# Altium schematic symbol library MB1137_1.SCHLIB: 102 symbols
Pins are listed as number, name and electrical type; pins without a type are passive.

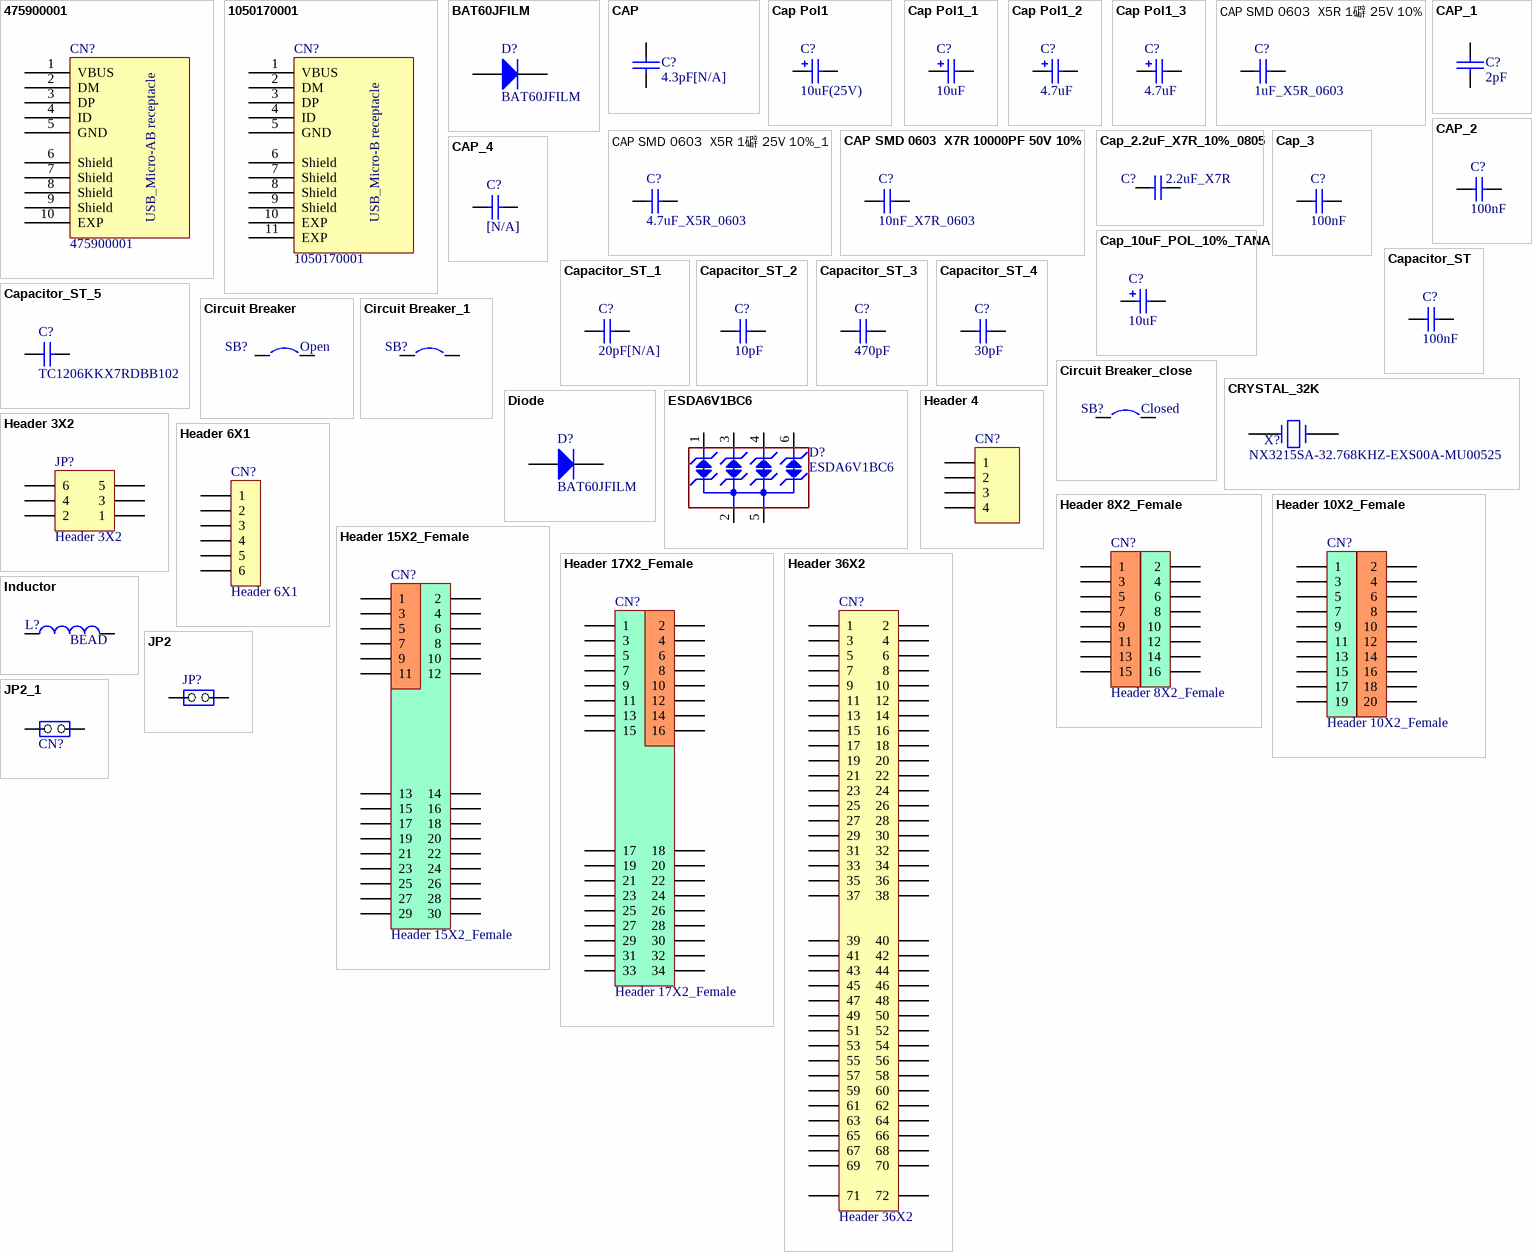
[diagram p0: symbols 475900001 to JP2_1]

## 475900001
designator CN?
footprint Model Name (Footprint not found)
footprint MOLEX_47590001 (Footprint not found)
pins: 1 VBUS, 2 DM, 3 DP, 4 ID, 5 GND, 6 Shield, 7 Shield, 8 Shield, 9 Shield, 10 EXP
text: USB_Micro-AB receptacle

## 1050170001
designator CN?
Silkscreen: USB
footprint Model Name (Footprint not found)
footprint MOLEX_1050170001 (Footprint not found)
footprint MICRO_USB_B_105017
footprint Molex_1050170001 (Footprint not found)
pins: 1 VBUS, 2 DM, 3 DP, 4 ID, 5 GND, 6 Shield, 7 Shield, 8 Shield, 9 Shield, 10 EXP, 11 EXP
text: USB_Micro-B receptacle

## BAT60JFILM
designator D?
Manuf_1: STM; Provided: ST; ECCN_US/EU: EAR99/NEC; Revision: July-2002: Re-released for DXP Platform.; Order: BAT60JFILM; Manuf_Part_1: BAT60JFILM; Distrib: ST
footprint DSO-C2/X3.3 (DO-214-AB/SMC; 2 C-Bend Leads; Body 7.9 x 5.9 mm, inc. leads (LxW))
simulation model DIODE (Diode)
signal-integrity model Diode
footprint SOD-323 (Footprint not found)
pins: 1 A, 2 K

## CAP
designator C?, comment 4.3pF[N/A]
Capacitor
footprint 0603 (Footprint not found)
footprint 0603C
pins: 1, 2
2 alternate drawings of the same symbol

## Cap Pol1
designator C?, comment 10uF(25V)
Polarized Capacitor (Radial); Published: 8-Jun-2000; Revision: July-2002: Re-released for DXP Platform.; Publisher: Altium Limited; Value: 10uF
simulation model CAP (Capacitor)
signal-integrity model C200M
footprint 3528 (Footprint not found)
footprint TAN-B
footprint TAN-A
pins: 1, 2

## Cap Pol1_1
designator C?, comment 10uF
Polarized Capacitor (Radial); Published: 8-Jun-2000; Revision: July-2002: Re-released for DXP Platform.; Publisher: Altium Limited; Value: 10uF
simulation model CAP (Capacitor)
signal-integrity model C200M
footprint 3528 (Footprint not found)
footprint TAN-B
footprint TAN-A
pins: 1, 2

## Cap Pol1_2
designator C?, comment 4.7uF
Polarized Capacitor (Radial); Value: 100pF; Ordered by: Subcon; Published: 8-Jun-2000; Revision: July-2002: Re-released for DXP Platform.; Publisher: Altium Limited
simulation model CAP (Capacitor)
signal-integrity model Cap Pol
footprint Model Name (Footprint not found)
footprint TAN-A
pins: 1, 2

## Cap Pol1_3
designator C?, comment 4.7uF
Polarized Capacitor (Radial); Value: 47uF; Published: 8-Jun-2000; Revision: July-2002: Re-released for DXP Platform.; Publisher: Altium Limited
simulation model CAP (Capacitor)
signal-integrity model C310M
footprint C310M (Footprint not found)
footprint C160M
footprint TAN-A
pins: 1, 2

## CAP SMD 0603  X5R 1礔 25V 10%
designator C?, comment 1uF_X5R_0603
0603  X5R 1礔; Rated voltage: 25V; Tolerance: 10%; Manufacturer: *; Manufacturer P/N: *; Order code Farnell: 1288202RL; Value: 1礔; Power: *; Technology: X5R; Temperature  Factor: *; Temperature Max: +125癈; Temperature Min: -55癈; STS Code: *
footprint 0603C (Footprint not found)
3D model 0603_0_0000_R (PCB3D Model)
simulation model Capacitor
signal-integrity model Capacitor
pins: 1, 2

## CAP SMD 0603  X5R 1礔 25V 10%_1
designator C?, comment 4.7uF_X5R_0603
0603  X5R 4.7uF; Value: 1礔; Rated voltage: 25V; Tolerance: 10%; Manufacturer: *; Manufacturer P/N: *; Order code Farnell: 1288202RL; Power: *; Technology: X5R; Temperature  Factor: *; Temperature Max: +125癈; Temperature Min: -55癈; STS Code: *
footprint 0603C (Footprint not found)
3D model 0603_0_0000_R (PCB3D Model)
simulation model Capacitor
signal-integrity model Capacitor
pins: 1, 2

## CAP SMD 0603  X7R 10000PF 50V 10%
designator C?, comment 10nF_X7R_0603
0603  X7R 10NF; Order code RS: 2040779; Rated voltage: 50V; Tolerance: 10%; Order code Farnell: 7569548RL; Value: 10NF; Power: *; Technology: X7R; Temperature Factor: *; Temperature Min: -55癈; Temperature Max: +125癈; STS Code: *
footprint 0603C (Footprint not found)
3D model 0603_0_0000_R (PCB3D Model)
simulation model Capacitor
signal-integrity model Capacitor
pins: 1, 2

## CAP_1
designator C?, comment 2pF
Capacitor
footprint 0603 (Footprint not found)
footprint 0603C
pins: 1, 2

## CAP_2
designator C?, comment 100nF
Capacitor; Value: 100pF; Published: 8-Jun-2000; Revision: July-2002: Re-released for DXP Platform.; Publisher: Altium Limited
footprint RAD-0.3 (Capacitor; 2 Leads)
simulation model CAP (Capacitor)
signal-integrity model Cap
footprint CAPR5.08-7.8X3.2
footprint CAPR2.54-5.1X3.2
footprint 0603
footprint 0603P
footprint 0603C
footprint 0402C
pins: 1, 2

## Cap_2.2uF_X7R_10%_0805
designator C?, comment 2.2uF_X7R
Capacitor,2.2uF,16V, X7R,10%,0805,YAGEO; Manuf_Part_1: CC0805KKX7R7BB225; Revision: July-2002: Re-released for DXP Platform.; Value: 2.2uF; Order: CC0805KKX7R7BB225; Manuf_1: YAGEO
simulation model CAP (Capacitor)
signal-integrity model Cap
footprint 0805C
footprint TAN-A
pins: 1, 2

## Cap_3
designator C?, comment 100nF
Capacitor; Value: 10nF; Published: 8-Jun-2000; Revision: July-2002: Re-released for DXP Platform.; Publisher: Altium Limited
simulation model CAP (Capacitor)
signal-integrity model Cap
footprint 0603 (Footprint not found)
footprint 0603C (Footprint not found)
pins: 1, 2

## CAP_4
designator C?, comment [N/A]
Capacitor; Value: 100pF; Published: 8-Jun-2000; Revision: July-2002: Re-released for DXP Platform.; Publisher: Altium Limited
footprint RAD-0.3 (Capacitor; 2 Leads)
simulation model CAP (Capacitor)
signal-integrity model Cap
footprint CAPR5.08-7.8X3.2
footprint CAPR2.54-5.1X3.2
footprint 0603P (Footprint not found)
footprint 0603C
pins: 1, 2

## Cap_10uF_POL_10%_TANA
designator C?, comment 10uF
Polarized Capacitor,10uF,10V,10%,typeA,VISHAY; Manuf_Part_1: 293D106X9010A2TE3; Revision: July-2002: Re-released for DXP Platform.; Value: 10uF; Manuf_1: VISHAY; Order: *; ECCN_US/EU: n/a
simulation model CAP (Capacitor)
signal-integrity model C200M
footprint TAN-A
pins: 1, 2

## Capacitor_ST
designator C?, comment 100nF
Capacitor 0402 / 0603 / 0805; Revision: July-2002: Re-released for DXP Platform.; Value: 100nF
simulation model CAP (Capacitor)
signal-integrity model Cap
footprint 0603C
footprint 0402C
footprint 0805C (Footprint not found)
pins: 1, 2

## Capacitor_ST_1
designator C?, comment 20pF[N/A]
Capacitor 0402 / 0603 / 0805; Value: 100nF; Revision: July-2002: Re-released for DXP Platform.
simulation model CAP (Capacitor)
signal-integrity model Cap
footprint 0603C
footprint 0402C
footprint 0805C (Footprint not found)
pins: 1, 2

## Capacitor_ST_2
designator C?, comment 10pF
Capacitor 0402 / 0603 / 0805; Value: 100nF; Revision: July-2002: Re-released for DXP Platform.
simulation model CAP (Capacitor)
signal-integrity model Cap
footprint 0603C
footprint 0402C
footprint 0805C (Footprint not found)
pins: 1, 2

## Capacitor_ST_3
designator C?, comment 470pF
Capacitor 0402 / 0603 / 0805; Value: 100nF; Revision: July-2002: Re-released for DXP Platform.
simulation model CAP (Capacitor)
signal-integrity model Cap
footprint 0603C
footprint 0402C
footprint 0805C (Footprint not found)
pins: 1, 2

## Capacitor_ST_4
designator C?, comment 30pF
Capacitor 0402 / 0603 / 0805; Value: 100nF; Revision: July-2002: Re-released for DXP Platform.
simulation model CAP (Capacitor)
signal-integrity model Cap
footprint 0603C
footprint 0402C
footprint 0805C (Footprint not found)
pins: 1, 2

## Capacitor_ST_5
designator C?, comment TC1206KKX7RDBB102
Capacitor 0402 / 0603 / 0805/ 1206; Value: 100nF; Revision: July-2002: Re-released for DXP Platform.
simulation model CAP (Capacitor)
signal-integrity model Cap
footprint 0603C
footprint 0402C
footprint 0805C (Footprint not found)
footprint 1206C (Footprint not found)
pins: 1, 2

## Circuit Breaker
designator SB?, comment Open
Circuit Breaker; Published: 24-Mar-1999; Revision: July-2002: Re-released for DXP Platform.; Publisher: Altium Limited
footprint SPST-2 (Circuit Breaker; 2 Leads)
footprint JP2_SMD
footprint SB_0603 (Footprint not found)
pins: 1, 2

## Circuit Breaker_1
designator SB?, comment Circuit Breaker  (value not drawn)
Solder: NO; Published: 24-Mar-1999; Revision: July-2002: Re-released for DXP Platform.; Publisher: Altium Limited
footprint SPST-2 (Circuit Breaker; 2 Leads)
footprint JP2_SMD
footprint SB_0603 (Footprint not found)
pins: 1, 2

## Circuit Breaker_close
designator SB?, comment Closed
Circuit Breaker; Published: 24-Mar-1999; Revision: July-2002: Re-released for DXP Platform.; Publisher: Altium Limited
footprint SPST-2 (Circuit Breaker; 2 Leads)
footprint JP2_SMD
footprint SB_0603 (Footprint not found)
pins: 1, 2

## CRYSTAL_32K
designator X?, comment NX3215SA-32.768KHZ-EXS00A-MU00525
Crystal
footprint XTAL1 (Footprint not found)
footprint XTAL_2SM_3R2X1R5 (Footprint not found)
pins: 1, 2
2 alternate drawings of the same symbol

## Diode
designator D?, comment BAT60JFILM
Default Diode; Code - JEDEC: DO-214-AB; Ordered by: STM; ECCN_US/EU: EAR99/NEC; Published: 8-Jun-2000; Revision: July-2002: Re-released for DXP Platform.; Publisher: Altium Limited
footprint DSO-C2/X3.3 (DO-214-AB/SMC; 2 C-Bend Leads; Body 7.9 x 5.9 mm, inc. leads (LxW))
simulation model DIODE (Diode)
signal-integrity model Diode
footprint SOD-323
pins: 1 A, 2 K

## ESDA6V1BC6
designator D?
4-line ESD protection; Manuf_1: STM; Manuf_Part_1: ESDA5V3L; Ref St: 9179034; Provided: ST; ECCN_US/EU: EAR99/NEC; Distrib: ST; Order: ESDA5V3L; Ordered by: STM
footprint SOT23-6L (Footprint not found)
footprint uQFN (Footprint not found)
pins: 1 IO1, 2 IO2, 3 GND, 4 IO3, 5 IO4, 6 NC

## Header 3X2
designator JP?
Header, 3-Pin, Dual row; Revision: 17-Jul-2002: Re-released for DXP Platform.; Publisher: Altium Limited
footprint HDR2X3 (Connector; Header; 3x2 Position)
signal-integrity model Connector
footprint 2*3P
footprint HDR_3x2_2R54_V_M (Footprint not found)
pins: 1, 2, 3, 4, 5, 6

## Header 4
designator CN?  (value not drawn)
Header, 4-Pin, Single row; Revision: 17-Jul-2002: Re-released for DXP Platform.; Publisher: Altium Limited
signal-integrity model Connector
footprint 1*4 (Footprint not found)
footprint HDR_1x4_2R54_V_M (Footprint not found)
pins: 1, 2, 3, 4

## Header 6X1
designator CN?
Header, 6-Pin, Single row; LatestRevisionDate: 17-Jul-2002; LatestRevisionNote: Re-released for DXP Platform.; Publisher: Altium Limited
footprint HDR2X17 (Connector; Header; 17x2 Position)
signal-integrity model Connector
footprint 1*6P (Footprint not found)
footprint HDR_1x6_2R54_V_M (Footprint not found)
pins: 1, 2, 3, 4, 5, 6

## Header 8X2_Female
designator CN?
Header, 8-Pin, Dual row,female; LatestRevisionDate: 17-Jul-2002; LatestRevisionNote: Re-released for DXP Platform.; Publisher: Altium Limited
footprint HDR2X17 (Connector; Header; 17x2 Position)
signal-integrity model Connector
footprint 2*8P_FEMALE (Footprint not found)
footprint HDR_8x2_2R54_V_F (Footprint not found)
pins: 1, 2, 3, 4, 5, 6, 7, 8, 9, 10, 11, 12, 13, 14, 15, 16

## Header 10X2_Female
designator CN?
Header, 10-Pin, Dual row,female; LatestRevisionDate: 17-Jul-2002; LatestRevisionNote: Re-released for DXP Platform.; Publisher: Altium Limited
footprint HDR2X17 (Connector; Header; 17x2 Position)
signal-integrity model Connector
footprint 2*10P_FEMALE (Footprint not found)
footprint HDR_10x2_2R54_V_F (Footprint not found)
pins: 1, 2, 3, 4, 5, 6, 7, 8, 9, 10, 11, 12, 13, 14, 15, 16, 17, 18, 19, 20

## Header 15X2_Female
designator CN?
Header, 15-Pin, Dual row,female; Revision: 17-Jul-2002: Re-released for DXP Platform.; Publisher: Altium Limited
footprint 2*15P_FEMALE (Footprint not found)
signal-integrity model Connector
footprint HDR_2X26_2R54 (Footprint not found)
footprint HDR_15x2_2R54_V_F (Footprint not found)
pins: 1, 2, 3, 4, 5, 6, 7, 8, 9, 10, 11, 12, 13, 14, 15, 16, 17, 18, 19, 20, 21, 22, 23, 24, 25, 26, 27, 28, 29, 30

## Header 17X2_Female
designator CN?
Header, 17-Pin, Dual row,female; Revision: 17-Jul-2002: Re-released for DXP Platform.; Publisher: Altium Limited
footprint 2*17P_FEMALE (Footprint not found)
signal-integrity model Connector
footprint HDR_2X26_2R54 (Footprint not found)
footprint HDR_17x2_2R54_V_F (Footprint not found)
pins: 1, 2, 3, 4, 5, 6, 7, 8, 9, 10, 11, 12, 13, 14, 15, 16, 17, 18, 19, 20, 21, 22, 23, 24, 25, 26, 27, 28, 29, 30, 31, 32, 33, 34

## Header 36X2
designator CN?
Header, 36-Pin, Dual row; Revision: 17-Jul-2002: Re-released for DXP Platform.; Publisher: Altium Limited
footprint 2*35P (Footprint not found)
signal-integrity model Connector
footprint HDR_2X26_2R54 (Footprint not found)
footprint HDR_2x36_2R54_V_M (Footprint not found)
pins: 1, 2, 3, 4, 5, 6, 7, 8, 9, 10, 11, 12, 13, 14, 15, 16, 17, 18, 19, 20, 21, 22, 23, 24, 25, 26, 27, 28, 29, 30, 31, 32, 33, 34, 35, 36, 37, 38, 39, 40, 41, 42, 43, 44, 45, 46, 47, 48, 49, 50, 51, 52, 53, 54, 55, 56, 57, 58, 59, 60, 61, 62, 63, 64, 65, 66, 67, 68, 69, 70, 71, 72

## Inductor
designator L?, comment BEAD
Inductor; Value: 100uH; Published: 8-Jun-2000; Revision: July-2002: Re-released for DXP Platform.; Publisher: Altium Limited
footprint 0603 (Footprint not found)
footprint 0603C
footprint 0603L
pins: 1, 2

## JP2
designator JP?
footprint SIP2/2.54
footprint HDR_1x2_2R54_V_M_S (Footprint not found)
pins: 1 COMMON, 2 NO

## JP2_1
designator CN?
Fitted: NO
footprint SIP2/2.54
footprint HDR_1x2_2R54_V_M_S (Footprint not found)
pins: 1 COMMON, 2 NO

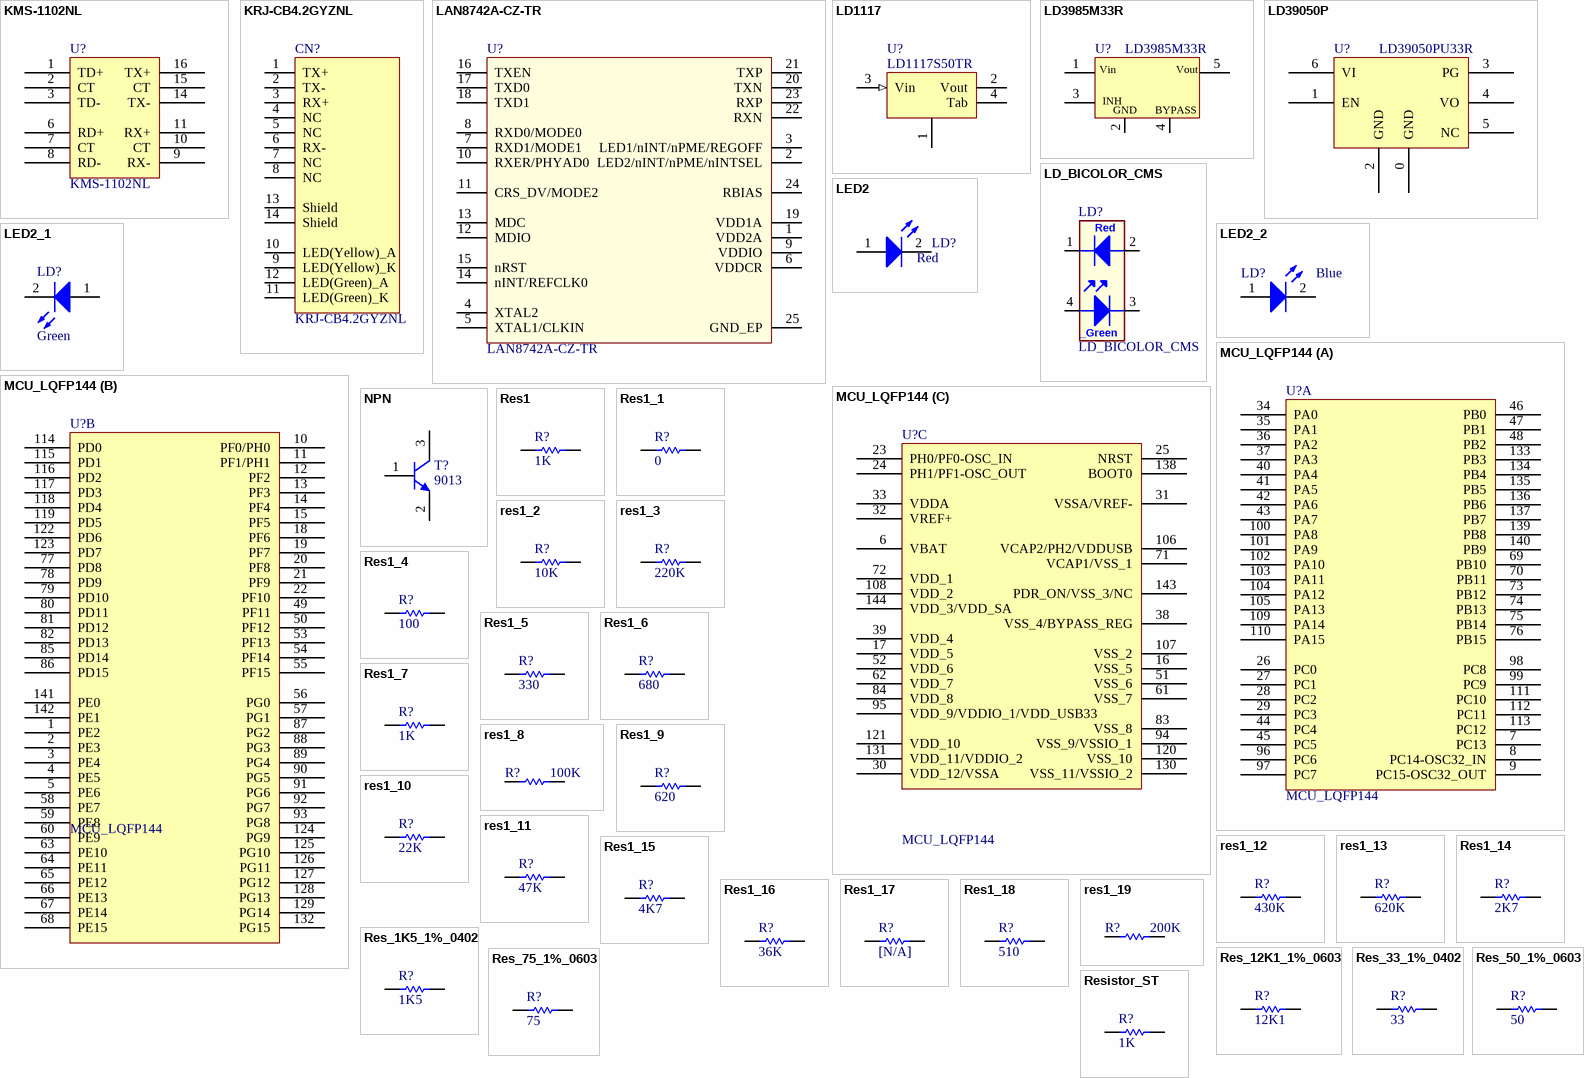
[diagram p1: symbols KMS-1102NL to Resistor_ST]

## KMS-1102NL
designator U?
footprint Transformer (Footprint not found)
pins: 1 TD+, 2 CT, 3 TD-, 6 RD+, 7 CT, 8 RD-, 9 RX-, 10 CT, 11 RX+, 14 TX-, 15 CT, 16 TX+

## KRJ-CB4.2GYZNL
designator CN?
100 Base-TX (Fast Ethernet) SMD RJ45 single port (1x1) with LEDS Integrated Magnetics Connector; Manuf_1: HanRun; Manuf_Part_1: HR961160C; Manuf_2: Pulse Electronics Corporation; Manuf_Part_2: J3011G21DNLT; Manuf_3: K.O.D International Holding; Manuf_Part_3: RMT-119A-12F6-GY-04; Distrib: Sub Co; Order: *
footprint RJ45_KRJ-CB4.2GYZNL (Footprint not found)
pins: 1 TX+, 2 TX-, 3 RX+, 4 NC, 5 NC, 6 RX-, 7 NC, 8 NC, 9 LED(Yellow)_K, 10 LED(Yellow)_A, 11 LED(Green)_K, 12 LED(Green)_A, 13 Shield, 14 Shield

## LAN8742A-CZ-TR
designator U?
LAN8742A-CZ-TR - Small Footprint RMII 10/100 Ethernet, Transceiver with HP Auto-MDIX and flexPWR Technology SQFN-24; Manuf_1: MICROCHIP; Order: LAN8742A-CZ-TR; Manuf_Part_1: LAN8742A-CZ-TR; Distrib: MICROCHIP
footprint QFN24_0R5_4X4 (Footprint not found)
pins: 1 VDD2A, 2 LED2/nINT/nPME/nINTSEL, 3 LED1/nINT/nPME/REGOFF, 4 XTAL2, 5 XTAL1/CLKIN, 6 VDDCR, 7 RXD1/MODE1, 8 RXD0/MODE0, 9 VDDIO, 10 RXER/PHYAD0, 11 CRS_DV/MODE2, 12 MDIO, 13 MDC, 14 nINT/REFCLK0, 15 nRST, 16 TXEN, 17 TXD0, 18 TXD1, 19 VDD1A, 20 TXN, 21 TXP, 22 RXN, 23 RXP, 24 RBIAS, 25 GND_EP

## LD1117
designator U?, comment LD1117S50TR
footprint SOT-223
pins: 1, 2 Vout (power), 3 Vin (in), 4 Tab (power)

## LD3985M33R
designator U?
Ultra low drop-low noise BiCMOS voltage, regulators low ESR capacitors compatible; Manuf_1: STM; Provided: ST; Ref St: 9176161; ECCN_US/EU: EAR99/NEC; Manuf_Part_1: LD3985M33R; Distrib: ST; Order: LD3985M33R
footprint SOT-23-5L
pins: 1 Vin, 2 GND, 3 CE, 4 BYPASS, 5 Vout
text: INH

## LD39050P
designator U?, comment LD39050PU33R
footprint DFN6
footprint DFN6(3X3)
footprint DFN6_0R95_3x3_TP (Footprint not found)
pins: 0 GND, 1 EN, 2 GND, 3 PG, 4 VO, 5 NC, 6 VI

## LD_BICOLOR_CMS
designator LD?
Bicolor Led; Manuf_Part_1: HSMF-A201-A00J1; Manuf_1: Avago Technologies; Ref St: xxxxxx; cap_dec: ----; Distrib: RADIOSPARES; Footprint: HSMF-A201
footprint HSMF-A201
pins: 1, 2, 3, 4
text: Red; _Green

## LED2
designator LD?, comment Red
Typical RED, GREEN, YELLOW, AMBER GaAs LED; Published: 8-Jun-2000; Revision: July-2002: Re-released for DXP Platform.; Publisher: Altium Limited
footprint D0603 (Footprint not found)
footprint 0603D-R (Footprint not found)
pins: 1 A, 2 K

## LED2_1
designator LD?, comment Green
Typical RED, GREEN, YELLOW, AMBER GaAs LED; Published: 8-Jun-2000; Revision: July-2002: Re-released for DXP Platform.; Publisher: Altium Limited
footprint D0603 (Footprint not found)
footprint 0603D-G (Footprint not found)
pins: 1 A, 2 K

## LED2_2
designator LD?, comment Blue
Typical RED, GREEN, YELLOW, AMBER GaAs LED; Published: 8-Jun-2000; Revision: July-2002: Re-released for DXP Platform.; Publisher: Altium Limited
footprint D0603 (Footprint not found)
footprint 0603D-B (Footprint not found)
pins: 1 A, 2 K

## MCU_LQFP144
designator U?
footprint TQFP144_M (Footprint not found)
footprint IC149-144-045-B5
footprint LQFP144 (Footprint not found)
footprint LQFP144_0R5_SKT (Footprint not found)
part A pins: 7 PC13, 8 PC14-OSC32_IN, 9 PC15-OSC32_OUT, 26 PC0, 27 PC1, 28 PC2, 29 PC3, 34 PA0, 35 PA1, 36 PA2, 37 PA3, 40 PA4, 41 PA5, 42 PA6, 43 PA7, 44 PC4, 45 PC5, 46 PB0, 47 PB1, 48 PB2, 69 PB10, 70 PB11, 73 PB12, 74 PB13, 75 PB14, 76 PB15, 96 PC6, 97 PC7, 98 PC8, 99 PC9, 100 PA8, 101 PA9, 102 PA10, 103 PA11, 104 PA12, 105 PA13, 109 PA14, 110 PA15, 111 PC10, 112 PC11, 113 PC12, 133 PB3, 134 PB4, 135 PB5, 136 PB6, 137 PB7, 139 PB8, 140 PB9
part B pins: 1 PE2, 2 PE3, 3 PE4, 4 PE5, 5 PE6, 10 PF0/PH0, 11 PF1/PH1, 12 PF2, 13 PF3, 14 PF4, 15 PF5, 18 PF6, 19 PF7, 20 PF8, 21 PF9, 22 PF10, 49 PF11, 50 PF12, 53 PF13, 54 PF14, 55 PF15, 56 PG0, 57 PG1, 58 PE7, 59 PE8, 60 PE9, 63 PE10, 64 PE11, 65 PE12, 66 PE13, 67 PE14, 68 PE15, 77 PD8, 78 PD9, 79 PD10, 80 PD11, 81 PD12, 82 PD13, 85 PD14, 86 PD15, 87 PG2, 88 PG3, 89 PG4, 90 PG5, 91 PG6, 92 PG7, 93 PG8, 114 PD0, 115 PD1, 116 PD2, 117 PD3, 118 PD4, 119 PD5, 122 PD6, 123 PD7, 124 PG9, 125 PG10, 126 PG11, 127 PG12, 128 PG13, 129 PG14, 132 PG15, 141 PE0, 142 PE1
part C pins: 6 VBAT, 16 VSS_5, 17 VDD_5, 23 PH0/PF0-OSC_IN, 24 PH1/PF1-OSC_OUT, 25 NRST, 30 VDD_12/VSSA, 31 VSSA/VREF-, 32 VREF+, 33 VDDA, 38 VSS_4/BYPASS_REG, 39 VDD_4, 51 VSS_6, 52 VDD_6, 61 VSS_7, 62 VDD_7, 71 VCAP1/VSS_1, 72 VDD_1, 83 VSS_8, 84 VDD_8, 94 VSS_9/VSSIO_1, 95 VDD_9/VDDIO_1/VDD_USB33, 106 VCAP2/PH2/VDDUSB, 107 VSS_2, 108 VDD_2, 120 VSS_10, 121 VDD_10, 130 VSS_11/VSSIO_2, 131 VDD_11/VDDIO_2, 138 BOOT0, 143 PDR_ON/VSS_3/NC, 144 VDD_3/VDD_SA

## NPN
designator T?, comment 9013
NPN Bipolar Transistor; Code - JEDEC: TO-226-AA; Published: 8-Jun-2000; Revision: July-2002: Re-released for DXP Platform.; Publisher: Altium Limited
footprint BCY-W3 (TO, Flat Index; 3 In-Line, Axial Leads; Body Dia. 4.8mm)
simulation model NPN
signal-integrity model NPN
footprint SOT-23
footprint SOT23-213 (Footprint not found)
pins: 1 B, 2 E, 3 C

## Res1
designator R?, comment 1K
Resistor; Ordered by: Subcon; Published: 8-Jun-2000; Revision: July-2002: Re-released for DXP Platform.; Publisher: Altium Limited; Value: 1K
footprint AXIAL-0.3
footprint 0603
footprint 0603R
footprint 0402R
pins: 1, 2
2 alternate drawings of the same symbol

## Res1_1
designator R?, comment 0
Resistor; Value: 1K; Published: 8-Jun-2000; Revision: July-2002: Re-released for DXP Platform.; Publisher: Altium Limited
footprint AXIAL-0.3 (Resistor; 2 Leads)
simulation model RESISTOR (Resistor)
signal-integrity model Res
footprint 0603
footprint 0805
footprint 0603R
pins: 1, 2
1 alternate drawing of the same symbol

## res1_2
designator R?, comment 10K
Resistor; Value: 1K; Published: 8-Jun-2000; Revision: July-2002: Re-released for DXP Platform.; Publisher: Altium Limited
footprint AXIAL-0.3 (Resistor; 2 Leads)
simulation model RESISTOR (Resistor)
signal-integrity model Res
footprint 0603
footprint 0603R (Footprint not found)
pins: 1, 2
1 alternate drawing of the same symbol

## res1_3
designator R?, comment 220K
Resistor; Value: 1K; Published: 8-Jun-2000; Revision: July-2002: Re-released for DXP Platform.; Publisher: Altium Limited
footprint AXIAL-0.3 (Resistor; 2 Leads)
simulation model RESISTOR (Resistor)
signal-integrity model Res
footprint 0603
footprint 0603R
pins: 1, 2
1 alternate drawing of the same symbol

## Res1_4
designator R?, comment 100
Resistor; Value: 1K; Published: 8-Jun-2000; Revision: July-2002: Re-released for DXP Platform.; Publisher: Altium Limited
footprint AXIAL-0.3 (Resistor; 2 Leads)
simulation model RESISTOR (Resistor)
signal-integrity model Res
footprint 0805
footprint 0603
footprint 0603R
pins: 1, 2
1 alternate drawing of the same symbol

## Res1_5
designator R?, comment 330
Resistor; Value: 1K; Published: 8-Jun-2000; Revision: July-2002: Re-released for DXP Platform.; Publisher: Altium Limited
footprint AXIAL-0.3 (Resistor; 2 Leads)
simulation model RESISTOR (Resistor)
signal-integrity model Res
footprint 0603
footprint 0805
footprint 0603R
pins: 1, 2
1 alternate drawing of the same symbol

## Res1_6
designator R?, comment 680
Resistor; Value: 1K; Published: 8-Jun-2000; Revision: July-2002: Re-released for DXP Platform.; Publisher: Altium Limited
footprint AXIAL-0.3 (Resistor; 2 Leads)
simulation model RESISTOR (Resistor)
signal-integrity model Res
footprint 0603
footprint 0805
footprint 0402R
footprint 0603R
pins: 1, 2
1 alternate drawing of the same symbol

## Res1_7
designator R?, comment 1K
Resistor; Published: 8-Jun-2000; Revision: July-2002: Re-released for DXP Platform.; Publisher: Altium Limited; Value: 1K
footprint AXIAL-0.3 (Resistor; 2 Leads)
simulation model RESISTOR (Resistor)
signal-integrity model Res
footprint 0603
footprint 0805
footprint 0402R
footprint 0603R
pins: 1, 2
1 alternate drawing of the same symbol

## res1_8
designator R?, comment 100K
Resistor; Value: 1K; Published: 8-Jun-2000; Revision: July-2002: Re-released for DXP Platform.; Publisher: Altium Limited
footprint AXIAL-0.3 (Resistor; 2 Leads)
simulation model RESISTOR (Resistor)
signal-integrity model Res
footprint 0603
footprint 0603R (Footprint not found)
pins: 1, 2
1 alternate drawing of the same symbol

## Res1_9
designator R?, comment 620
Resistor; Value: 1K; Published: 8-Jun-2000; Revision: July-2002: Re-released for DXP Platform.; Publisher: Altium Limited
footprint AXIAL-0.3 (Resistor; 2 Leads)
simulation model RESISTOR (Resistor)
signal-integrity model Res
footprint 0603
footprint 0805
footprint 0603R
pins: 1, 2
1 alternate drawing of the same symbol

## res1_10
designator R?, comment 22K
Resistor; Value: 1K; Published: 8-Jun-2000; Revision: July-2002: Re-released for DXP Platform.; Publisher: Altium Limited
footprint AXIAL-0.3 (Resistor; 2 Leads)
footprint 0805
footprint 0603
footprint 0603R
pins: 1, 2
1 alternate drawing of the same symbol

## res1_11
designator R?, comment 47K
Resistor; Value: 1K; Published: 8-Jun-2000; Revision: July-2002: Re-released for DXP Platform.; Publisher: Altium Limited
footprint AXIAL-0.3 (Resistor; 2 Leads)
footprint 0805
footprint 0603
footprint 0603R
footprint 0603R
pins: 1, 2
1 alternate drawing of the same symbol

## res1_12
designator R?, comment 430K
Resistor; Value: 1K; Published: 8-Jun-2000; Revision: July-2002: Re-released for DXP Platform.; Publisher: Altium Limited
footprint AXIAL-0.3 (Resistor; 2 Leads)
footprint 0805
footprint 0603
footprint 0603R
footprint 0603R
pins: 1, 2
1 alternate drawing of the same symbol

## res1_13
designator R?, comment 620K
Resistor; Value: 1K; Published: 8-Jun-2000; Revision: July-2002: Re-released for DXP Platform.; Publisher: Altium Limited
footprint AXIAL-0.3 (Resistor; 2 Leads)
footprint 0805
footprint 0603
footprint 0603R
footprint 0603R
pins: 1, 2
1 alternate drawing of the same symbol

## Res1_14
designator R?, comment 2K7
Resistor; Value: 1K; Published: 8-Jun-2000; Revision: July-2002: Re-released for DXP Platform.; Publisher: Altium Limited
footprint AXIAL-0.3 (Resistor; 2 Leads)
simulation model RESISTOR (Resistor)
signal-integrity model Res
footprint 0603
footprint 0805
footprint 0603R
pins: 1, 2
1 alternate drawing of the same symbol

## Res1_15
designator R?, comment 4K7
Resistor; Value: 1K; Published: 8-Jun-2000; Revision: July-2002: Re-released for DXP Platform.; Publisher: Altium Limited
footprint AXIAL-0.3 (Resistor; 2 Leads)
simulation model RESISTOR (Resistor)
signal-integrity model Res
footprint 0603
footprint 0805
footprint 0603R
pins: 1, 2
1 alternate drawing of the same symbol

## Res1_16
designator R?, comment 36K
Resistor; Value: 1K; Published: 8-Jun-2000; Revision: July-2002: Re-released for DXP Platform.; Publisher: Altium Limited
footprint AXIAL-0.3 (Resistor; 2 Leads)
simulation model RESISTOR (Resistor)
signal-integrity model Res
footprint 0603
footprint 0805
footprint 0603R
pins: 1, 2
1 alternate drawing of the same symbol

## Res1_17
designator R?, comment [N/A]
Resistor; Value: 1K; Published: 8-Jun-2000; Revision: July-2002: Re-released for DXP Platform.; Publisher: Altium Limited
footprint AXIAL-0.3 (Resistor; 2 Leads)
simulation model RESISTOR (Resistor)
signal-integrity model Res
footprint 0603
footprint 0805
footprint 0603R
pins: 1, 2
1 alternate drawing of the same symbol

## Res1_18
designator R?, comment 510
Resistor; Value: 1K; Published: 8-Jun-2000; Revision: July-2002: Re-released for DXP Platform.; Publisher: Altium Limited
footprint AXIAL-0.3 (Resistor; 2 Leads)
simulation model RESISTOR (Resistor)
signal-integrity model Res
footprint 0603
footprint 0805
footprint 0603R (Footprint not found)
pins: 1, 2
1 alternate drawing of the same symbol

## res1_19
designator R?, comment 200K
Resistor; Value: 1K; Published: 8-Jun-2000; Revision: July-2002: Re-released for DXP Platform.; Publisher: Altium Limited
footprint AXIAL-0.3 (Resistor; 2 Leads)
simulation model RESISTOR (Resistor)
signal-integrity model Res
footprint 0603
footprint 0603R (Footprint not found)
pins: 1, 2
1 alternate drawing of the same symbol

## Res_1K5_1%_0402
designator R?, comment 1K5
Resistor,1K5,0402,1%,YAGEO; Manuf_Part_1: RC0402FR-071K5L; Value: 1K5; Manuf_1: YAGEO; Order: RC0402FR-071K5L; ECCN_US/EU: n/a; Distrib: FARNELL
footprint 0402R
footprint 0603R
footprint 0805R (Footprint not found)
footprint 0603R-GS
footprint 1206R (Footprint not found)
pins: 1, 2

## Res_12K1_1%_0603
designator R?, comment 12K1
Resistor,12K1,0603,1%,VISHAY; Manuf_Part_1: MCT 0603-50 1% P5 12K1; Order: 2325243; Value: 12K1; ECCN_US/EU: n/a; Manuf_1: VISHAY; Distrib: FARNELL
footprint 0603R
footprint 0603R-GS
pins: 1, 2

## Res_33_1%_0402
designator R?, comment 33
Resistor,33,0402,1%,YAGEO; Manuf_Part_1: RC0402FR-0733RL; Value: 33; Manuf_1: YAGEO; Order: *; ECCN_US/EU: n/a; Distrib: FARNELL
footprint 0402R
footprint 0603R
footprint 0805R (Footprint not found)
footprint 0603R-GS
footprint 1206R (Footprint not found)
pins: 1, 2

## Res_50_1%_0603
designator R?, comment 50
Resistor,50,0603,1%,YAGEO; Manuf_Part_1: RC0402FR-0750RL; Value: 50; Manuf_1: YAGEO; Order: *; ECCN_US/EU: n/a; Distrib: FARNELL
footprint 0402R
footprint 0603R
footprint 0805R (Footprint not found)
footprint 0603R-GS
footprint 1206R (Footprint not found)
pins: 1, 2

## Res_75_1%_0603
designator R?, comment 75
Resistor,75,0603,1%,YAGEO; Manuf_Part_1: RC0402FR-0750RL; Value: 50; Manuf_1: YAGEO; Order: *; ECCN_US/EU: n/a; Distrib: FARNELL
footprint 0402R
footprint 0603R
footprint 0805R (Footprint not found)
footprint 0603R-GS
footprint 1206R (Footprint not found)
pins: 1, 2

## Resistor_ST
designator R?, comment 1K
Resistor 0402 / 0603 / 0805; Value: 10K
footprint 0402R
footprint 0603R
footprint 0805R (Footprint not found)
footprint 0603R-GS
pins: 1, 2

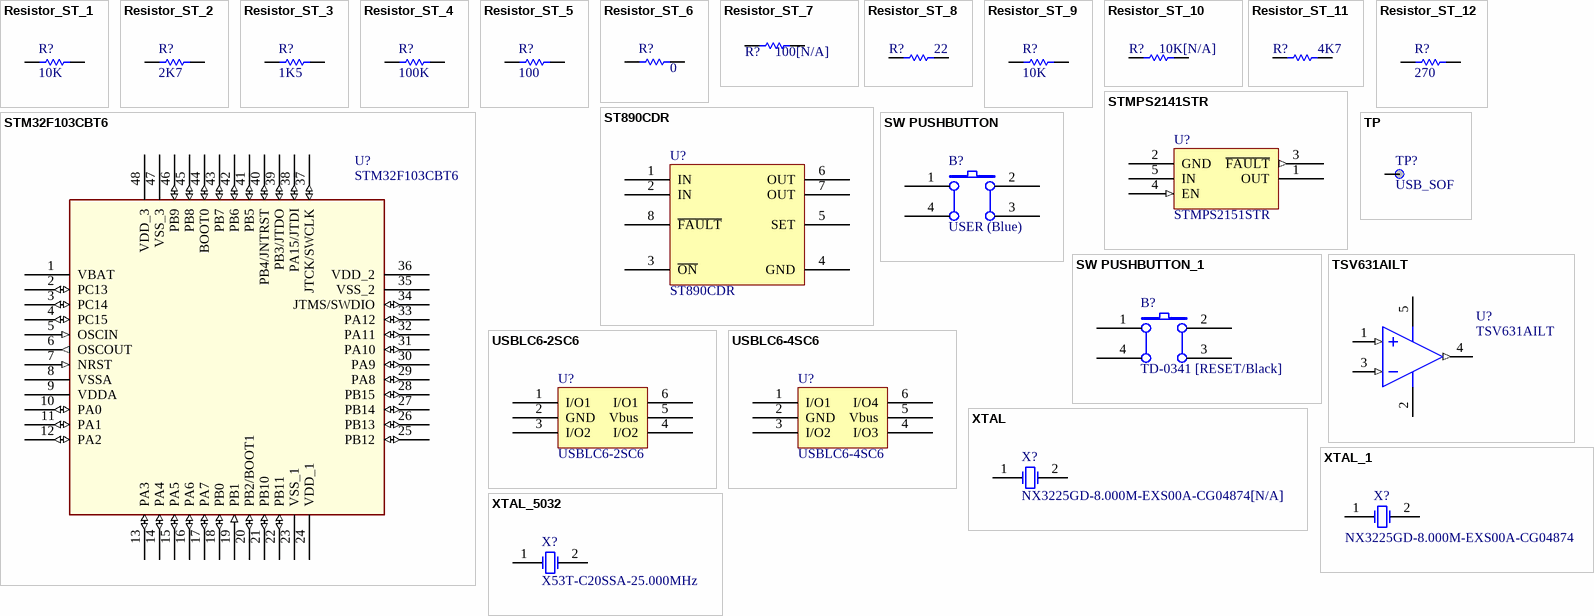
[diagram p2: symbols Resistor_ST_1 to XTAL_5032]

## Resistor_ST_1
designator R?, comment 10K
Resistor 0402 / 0603 / 0805; Value: 10K
footprint 0402R
footprint 0603R
footprint 0805R (Footprint not found)
footprint 0603R-GS
pins: 1, 2

## Resistor_ST_2
designator R?, comment 2K7
Resistor 0402 / 0603 / 0805; Value: 10K
footprint 0402R
footprint 0603R
footprint 0805R (Footprint not found)
footprint 0603R-GS
pins: 1, 2

## Resistor_ST_3
designator R?, comment 1K5
Resistor 0402 / 0603 / 0805; Value: 10K
footprint 0402R
footprint 0603R
footprint 0805R (Footprint not found)
footprint 0603R-GS
pins: 1, 2

## Resistor_ST_4
designator R?, comment 100K
Resistor 0402 / 0603 / 0805; Value: 10K
footprint 0402R
footprint 0603R
footprint 0805R (Footprint not found)
footprint 0603R-GS
pins: 1, 2

## Resistor_ST_5
designator R?, comment 100
Resistor 0402 / 0603 / 0805; Value: 10K
footprint 0402R
footprint 0603R
footprint 0805R (Footprint not found)
footprint 0603R-GS
pins: 1, 2

## Resistor_ST_6
designator R?, comment 0
Resistor 0402 / 0603 / 0805; Value: 10K
footprint 0402R
footprint 0603R
footprint 0805R (Footprint not found)
footprint 0603R-GS
pins: 1, 2

## Resistor_ST_7
designator R?, comment 100[N/A]
Resistor 0402 / 0603 / 0805; Value: 10K
footprint 0402R
footprint 0603R
footprint 0805R (Footprint not found)
footprint 0603R-GS
pins: 1, 2

## Resistor_ST_8
designator R?, comment 22
Resistor 0402 / 0603 / 0805; Value: 10K
footprint 0402R
footprint 0603R
footprint 0805R (Footprint not found)
footprint 0603R-GS
pins: 1, 2

## Resistor_ST_9
designator R?, comment 10K
Resistor 0402 / 0603 / 0805; Value: 10K
footprint 0402R
footprint 0603R
footprint 0805R (Footprint not found)
footprint 0603R-GS
pins: 1, 2

## Resistor_ST_10
designator R?, comment 10K[N/A]
Resistor 0402 / 0603 / 0805; Value: 10K; Fitted: NO
footprint 0402R
footprint 0603R
footprint 0805R (Footprint not found)
footprint 0603R-GS
pins: 1, 2

## Resistor_ST_11
designator R?, comment 4K7
Resistor 0402 / 0603 / 0805; Value: 10K; Fitted: NO
footprint 0402R
footprint 0603R
footprint 0805R (Footprint not found)
footprint 0603R-GS
pins: 1, 2

## Resistor_ST_12
designator R?, comment 270
Resistor 0402 / 0603 / 0805; Value: 10K
footprint 0402R
footprint 0603R
footprint 0805R (Footprint not found)
footprint 0603R-GS
pins: 1, 2

## ST890CDR
designator U?
footprint SOIC8_1R27_4R9X6 (Footprint not found)
pins: 1 IN, 2 IN, 3 ~{ON}, 4 GND, 5 SET, 6 OUT, 7 OUT, 8 ~{FAULT}

## STM32F103CBT6
designator U?
Medium-density performance line ARM-based 32-bit MCU with 64KB Flash; Manuf_Part_1: STM32F103C8T6; Manuf_1: STM; Ref St: 9175981; Provided: ST; ECCN_US/EU: 3A991A2/NEC; Footprint: QFP48 7X7; Distrib: ST; Order: STM32F103C8T6
footprint QFP48 7X7 (Footprint not found)
footprint LQFP48_0R5_7x7 (Footprint not found)
pins: 1 VBAT (power), 2 PC13 (io), 3 PC14 (io), 4 PC15 (io), 5 OSCIN (in), 6 OSCOUT (out), 7 NRST (in), 8 VSSA (power), 9 VDDA (power), 10 PA0 (io), 11 PA1 (io), 12 PA2 (io), 13 PA3 (io), 14 PA4 (io), 15 PA5 (io), 16 PA6 (io), 17 PA7 (io), 18 PB0 (io), 19 PB1 (in), 20 PB2/BOOT1 (io), 21 PB10 (io), 22 PB11 (io), 23 VSS_1 (power), 24 VDD_1 (power), 25 PB12 (io), 26 PB13 (io), 27 PB14 (io), 28 PB15 (io), 29 PA8 (io), 30 PA9 (io), 31 PA10 (io), 32 PA11 (io), 33 PA12 (io), 34 JTMS/SWDIO (io), 35 VSS_2 (power), 36 VDD_2 (power), 37 JTCK/SWCLK (io), 38 PA15/JTDI (io), 39 PB3/JTDO (io), 40 PB4/JNTRST (io), 41 PB5 (io), 42 PB6 (io), 43 PB7 (io), 44 BOOT0 (io), 45 PB8 (io), 46 PB9 (io), 47 VSS_3 (power), 48 VDD_3 (power)

## STMPS2141STR
designator U?, comment STMPS2151STR
footprint SOT23-5L (Footprint not found)
footprint SOT-23-5L
footprint SOT23-5 (Footprint not found)
footprint SOT-23-5L
pins: 1 OUT, 2 GND, 3 ~{FAULT} (out), 4 EN (in), 5 IN

## SW PUSHBUTTON
designator B?, comment USER (Blue)
SE PUSHBUTTON
footprint PB (Footprint not found)
footprint BP1CMS
footprint PB10 (Footprint not found)
footprint PB-6X6mm-Blue (Footprint not found)
pins: 1 A0, 2 B0, 3 B1, 4 A1

## SW PUSHBUTTON_1
designator B?, comment TD-0341 [RESET/Black]
SE PUSHBUTTON
footprint PB (Footprint not found)
footprint PB10
footprint BP1CMS
footprint PB-6X6mm-Black (Footprint not found)
pins: 1 A0, 2 B0, 3 B1, 4 A1

## TP
designator TP?, comment USB_SOF
footprint TP (Footprint not found)
pins: 1

## TSV631AILT
designator U?
footprint SOT23-5L (Footprint not found)
footprint SOT-23-5L
pins: 1 IN+ (in), 2 VDD (power), 3 IN- (in), 4 OUT (out), 5 VCC (power)

## USBLC6-2SC6
designator U?
footprint SOT23-6L (Footprint not found)
pins: 1 I/O1, 2 GND, 3 I/O2, 4 I/O2, 5 Vbus, 6 I/O1

## USBLC6-4SC6
designator U?
footprint SOT23-6L (Footprint not found)
pins: 1 I/O1, 2 GND, 3 I/O2, 4 I/O3, 5 Vbus, 6 I/O4

## XTAL
designator X?, comment NX3225GD-8.000M-EXS00A-CG04874[N/A]
Crystal Oscillator; Published: 8-Jun-2000; LatestRevisionDate: 17-Jul-2002; LatestRevisionNote: Re-released for DXP Platform.; PackageReference: R38; Publisher: Altium Limited
footprint R38
footprint XTAL1
footprint HOSC-L500HW320H105-4_V (Quartz Crystal, Body 5.0 x 3.2 mm, Height 1.05mm)
footprint NDK_NX3225GD (NDK 8M Hz  3.2 x 2.5 mm)
footprint XTAL_3225 (Footprint not found)
footprint OSC_2SM_3R2x2R5 (Footprint not found)
pins: 1 OSC1, 2 OSC2
2 alternate drawings of the same symbol

## XTAL_1
designator X?, comment NX3225GD-8.000M-EXS00A-CG04874
Crystal Oscillator; Published: 8-Jun-2000; LatestRevisionDate: 17-Jul-2002; LatestRevisionNote: Re-released for DXP Platform.; PackageReference: R38; Publisher: Altium Limited
footprint R38
footprint XTAL1
footprint HOSC-L500HW320H105-4_V (Quartz Crystal, Body 5.0 x 3.2 mm, Height 1.05mm)
footprint NDK_NX3225GD (NDK 8M Hz  3.2 x 2.5 mm)
footprint XTAL_3225 (Footprint not found)
footprint OSC_2SM_3R2x2R5 (Footprint not found)
pins: 1 OSC1, 2 OSC2
2 alternate drawings of the same symbol

## XTAL_5032
designator X?, comment X53T-C20SSA-25.000MHz
Crystal Oscillator; Published: 8-Jun-2000; LatestRevisionDate: 17-Jul-2002; LatestRevisionNote: Re-released for DXP Platform.; PackageReference: R38; Publisher: Altium Limited
footprint R38
footprint XTAL1
footprint HOSC-L500HW320H105-4_V (Quartz Crystal, Body 5.0 x 3.2 mm, Height 1.05mm)
footprint NDK_NX3225GD (NDK 8M Hz  3.2 x 2.5 mm)
footprint XTAL_5032 (Footprint not found)
footprint XTAL_2SM_5R0X3R2 (Footprint not found)
pins: 1 OSC1, 2 OSC2
2 alternate drawings of the same symbol